# EAGLE library part 555 (library Bob_Headset)
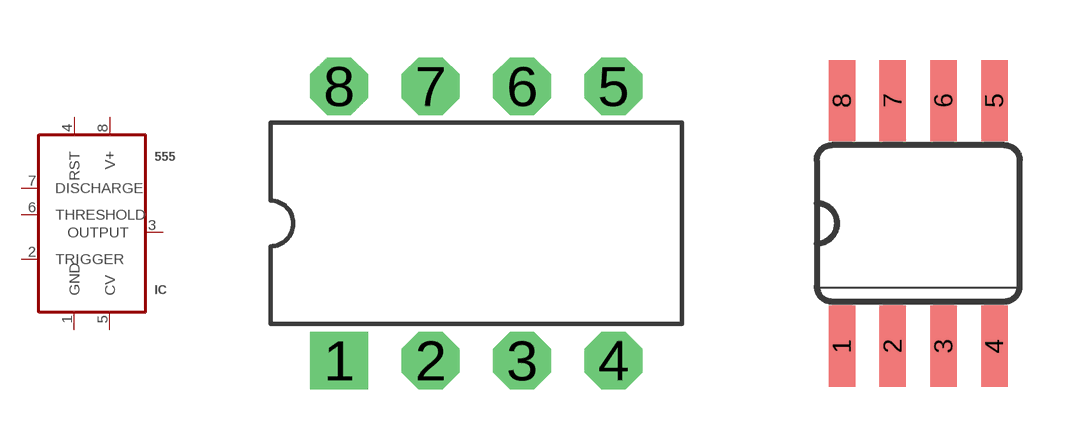
[diagram p4: symbol with the pads of DIP08; footprints DIP08, SO08]

Designator prefix IC

## 555  [DIP08]
1  GND  pwr
2  TRIGGER
3  OUTPUT  out
4  RST  in
5  CV
6  THRESHOLD
7  DISCHARGE
8  V+  pwr

## 555SO  [SO08]
Pads as for DIP08

## Footprint DIP08 (pad centres in mm)
drill 0.813 pad 1.6 square: 1 1.27,-3.81
drill 0.813 pad 1.6 octagon: 2 3.81,-3.81; 3 6.35,-3.81; 4 8.89,-3.81; 5 8.89,3.81; 6 6.35,3.81; 7 3.81,3.81; 8 1.27,3.81

## Footprint SO08 (pad centres in mm)
Small Outline Package SOIC 150 mil
smd 0.66 x 2.032: 1 -1.905,-3.073; 2 -0.635,-3.073; 3 0.635,-3.073; 4 1.905,-3.073; 5 1.905,3.073; 6 0.635,3.073; 7 -0.635,3.073; 8 -1.905,3.073